# Altium schematic symbol library Transistor_FET.SchLib: 598 symbols (part 1 of 6)
Pins are listed as number, name and electrical type; pins without a type are passive.

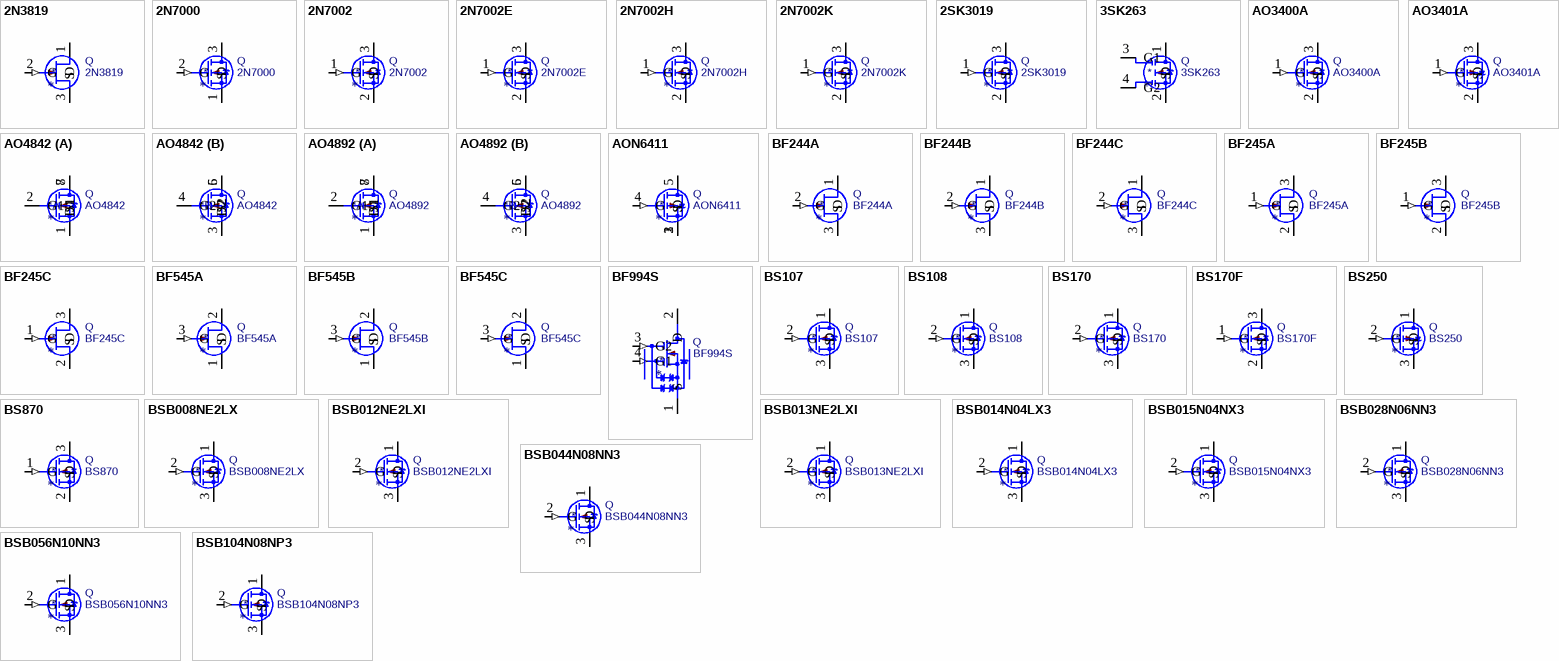
[diagram p0: symbols 2N3819 to BSB104N08NP3]

## 2N3819
designator *  value 2N3819  Reference: Q
20mA Id, 25V Vgs, N-Channel JFET Transistor, TO-92; ki_fp_filters: TO?92*; Footprint: Package_TO_SOT_THT:TO-92; Datasheet: https://my.centralsemi.com/datasheets/2N3819.PDF; Description_: 20mA Id, 25V Vgs, N-Channel JFET Transistor, TO-92; ki_keywords: N-Channel JFET Transistor
pins: 1 D, 2 G (in), 3 S

## 2N7000
designator *  value 2N7000  Reference: Q
0.2A Id, 200V Vds, N-Channel MOSFET, 2.6V Logic Level, TO-92; ki_keywords: N-Channel MOSFET Logic-Level; ki_fp_filters: TO?92*; Footprint: Package_TO_SOT_THT:TO-92_Inline; Datasheet: https://www.vishay.com/docs/70226/70226.pdf; Description_: 0.2A Id, 200V Vds, N-Channel MOSFET, 2.6V Logic Level, TO-92
pins: 1 S, 2 G (in), 3 D

## 2N7002
designator *  value 2N7002  Reference: Q
0.115A Id, 60V Vds, N-Channel MOSFET, SOT-23; ki_keywords: N-Channel Switching MOSFET; ki_fp_filters: SOT?23*; Footprint: Package_TO_SOT_SMD:SOT-23; Datasheet: https://www.onsemi.com/pub/Collateral/NDS7002A-D.PDF; Description_: 0.115A Id, 60V Vds, N-Channel MOSFET, SOT-23
pins: 1 G (in), 2 S, 3 D

## 2N7002E
designator *  value 2N7002E  Reference: Q
0.24A Id, 60V Vds, N-Channel MOSFET, SOT-23; ki_fp_filters: SOT?23*; Footprint: Package_TO_SOT_SMD:SOT-23; Datasheet: http://www.diodes.com/assets/Datasheets/ds30376.pdf; Description_: 0.24A Id, 60V Vds, N-Channel MOSFET, SOT-23; ki_keywords: N-Channel MOSFET
pins: 1 G (in), 2 S, 3 D

## 2N7002H
designator *  value 2N7002H  Reference: Q
0.21A Id, 60V Vds, N-Channel MOSFET, SOT-23; ki_fp_filters: SOT?23*; Footprint: Package_TO_SOT_SMD:SOT-23; Datasheet: http://www.diodes.com/assets/Datasheets/2N7002H.pdf; Description_: 0.21A Id, 60V Vds, N-Channel MOSFET, SOT-23; ki_keywords: N-Channel MOSFET
pins: 1 G (in), 2 S, 3 D

## 2N7002K
designator *  value 2N7002K  Reference: Q
0.38A Id, 60V Vds, N-Channel MOSFET, SOT-23; ki_fp_filters: SOT?23*; Footprint: Package_TO_SOT_SMD:SOT-23; Datasheet: https://www.diodes.com/assets/Datasheets/ds30896.pdf; Description_: 0.38A Id, 60V Vds, N-Channel MOSFET, SOT-23; ki_keywords: N-Channel MOSFET
pins: 1 G (in), 2 S, 3 D

## 2SK3019
designator *  value 2SK3019  Reference: Q
30V Vds, 0.1A Id, 2Ω Rds(on) @ 4.5V, N-Channel MOSFET, SOT-523; ki_keywords: MCC Micro-Commercial-Components; ki_fp_filters: SOT?523*; Footprint: Package_TO_SOT_SMD:SOT-523; Datasheet: https://www.mccsemi.com/pdf/Products/2SK3019(SOT-523).pdf; Description_: 30V Vds, 0.1A Id, 2Ω Rds(on) @ 4.5V, N-Channel MOSFET, SOT-523
pins: 1 G (in), 2 S, 3 D

## 3SK263
designator *  value 3SK263  Reference: Q
30mA Id, 15V Vds, N-Channel Dual Gate MOSFET, SOT-143/343; ki_keywords: N-Channel MOSFET Dual Gate; ki_fp_filters: SOT?143*; Footprint: Package_TO_SOT_SMD:SOT-143; Datasheet: http://www.onsemi.com/pub_link/Collateral/EN4423-D.PDF; Description_: 30mA Id, 15V Vds, N-Channel Dual Gate MOSFET, SOT-143/343
pins: 1 D, 2 S, 3 G1, 4 G2

## AO3400A
designator *  value AO3400A  Reference: Q
30V Vds, 5.7A Id, N-Channel MOSFET, SOT-23; ki_fp_filters: SOT?23*; Footprint: Package_TO_SOT_SMD:SOT-23; Datasheet: http://www.aosmd.com/pdfs/datasheet/AO3400A.pdf; Description_: 30V Vds, 5.7A Id, N-Channel MOSFET, SOT-23; ki_keywords: N-Channel MOSFET
pins: 1 G (in), 2 S, 3 D

## AO3401A
designator *  value AO3401A  Reference: Q
-4.0A Id, -30V Vds, P-Channel MOSFET, SOT-23; ki_fp_filters: SOT?23*; Footprint: Package_TO_SOT_SMD:SOT-23; Datasheet: http://www.aosmd.com/pdfs/datasheet/AO3401A.pdf; Description_: -4.0A Id, -30V Vds, P-Channel MOSFET, SOT-23; ki_keywords: P-Channel MOSFET
pins: 1 G (in), 2 S, 3 D

## AO4842
designator *  value AO4842  Reference: Q
7.7A Id, 30V Vds, Dual N-Channel MOSFET, 21mOhm Ron, SO-8; ki_fp_filters: SOIC*3.9x4.9mm*P1.27mm*; Footprint: Package_SO:SOIC-8_3.9x4.9mm_P1.27mm; Datasheet: https://aosmd.com/sites/default/files/res/data_sheets/AO4842.pdf; Description_: 7.7A Id, 30V Vds, Dual N-Channel MOSFET, 21mOhm Ron, SO-8; ki_keywords: Dual N-Channel MOSFET
part A pins: 1 S1, 2 G1, 7 D1, 8 D1
part B pins: 3 S2, 4 G2, 5 D2, 6 D2

## AO4892
designator *  value AO4892  Reference: Q
4A Id, 100V Vds, Dual N-Channel MOSFET, 68mOhm Ron, SO-8; ki_keywords: NMOS Alpha-Omega; ki_fp_filters: SOIC*3.9x4.9mm*P1.27mm*; Footprint: Package_SO:SOIC-8_3.9x4.9mm_P1.27mm; Datasheet: https://aosmd.com/sites/default/files/res/datasheets/AO4892.pdf; Description_: 4A Id, 100V Vds, Dual N-Channel MOSFET, 68mOhm Ron, SO-8
part A pins: 1 S1, 2 G1, 7 D1, 8 D1
part B pins: 3 S2, 4 G2, 5 D2, 6 D2

## AON6411
designator *  value AON6411  Reference: Q
-85A Id, -20V Vds, P-Channel MOSFET, DFN-8; ki_fp_filters: AO*DFN*8*1EP*5.55x5.2mm*P1.27mm*EP4.12x4.6mm*; Footprint: Package_DFN_QFN:AO_DFN-8-1EP_5.55x5.2mm_P1.27mm_EP4.12x4.6mm; Datasheet: http://www.aosmd.com/res/data_sheets/AON6411.pdf; Description_: -85A Id, -20V Vds, P-Channel MOSFET, DFN-8; ki_keywords: P-Channel MOSFET
pins: 1 S, 2 S, 3 S, 4 G (in), 5 D

## BF244A
designator *  value BF244A  Reference: Q
50mA Id, 30V Vgs, N-Channel FET Transistor, TO-92; ki_keywords: N-Channel FET Transistor Low Voltage; ki_fp_filters: TO?92*; Footprint: Package_TO_SOT_THT:TO-92_Inline; Datasheet: https://media.digikey.com/pdf/Data%20Sheets/Fairchild%20PDFs/BF244x.pdf; Description_: 50mA Id, 30V Vgs, N-Channel FET Transistor, TO-92
pins: 1 D, 2 G (in), 3 S

## BF244B
designator *  value BF244B  Reference: Q
50mA Id, 30V Vgs, N-Channel FET Transistor, TO-92; ki_keywords: N-Channel FET Transistor Low Voltage; ki_fp_filters: TO?92*; Footprint: Package_TO_SOT_THT:TO-92_Inline; Datasheet: https://media.digikey.com/pdf/Data%20Sheets/Fairchild%20PDFs/BF244x.pdf; Description_: 50mA Id, 30V Vgs, N-Channel FET Transistor, TO-92
pins: 1 D, 2 G (in), 3 S

## BF244C
designator *  value BF244C  Reference: Q
10mA Id, 30V Vgs, N-Channel FET Transistor, TO-92; ki_keywords: N-Channel FET Transistor Low Voltage; ki_fp_filters: TO?92*; Footprint: Package_TO_SOT_THT:TO-92_Inline; Datasheet: https://media.digikey.com/pdf/Data%20Sheets/Fairchild%20PDFs/BF244x.pdf; Description_: 10mA Id, 30V Vgs, N-Channel FET Transistor, TO-92
pins: 1 D, 2 G (in), 3 S

## BF245A
designator *  value BF245A  Reference: Q
50mA Id, 30V Vgs, N-Channel FET Transistor, TO-92; ki_keywords: N-Channel FET Transistor Low Voltage; ki_fp_filters: TO?92*; Footprint: Package_TO_SOT_THT:TO-92_Inline; Datasheet: https://www.onsemi.com/pub/Collateral/BF245A-D.PDF; Description_: 50mA Id, 30V Vgs, N-Channel FET Transistor, TO-92
pins: 1 G (in), 2 S, 3 D

## BF245B
designator *  value BF245B  Reference: Q
10mA Id, 30V Vgs, N-Channel FET Transistor, TO-92; ki_keywords: N-Channel FET Transistor Low Voltage; ki_fp_filters: TO?92*; Footprint: Package_TO_SOT_THT:TO-92_Inline; Datasheet: https://www.onsemi.com/pub/Collateral/BF245A-D.PDF; Description_: 10mA Id, 30V Vgs, N-Channel FET Transistor, TO-92
pins: 1 G (in), 2 S, 3 D

## BF245C
designator *  value BF245C  Reference: Q
10mA Id, 30V Vgs, N-Channel FET Transistor, TO-92; ki_keywords: N-Channel FET Transistor Low Voltage; ki_fp_filters: TO?92*; Footprint: Package_TO_SOT_THT:TO-92_Inline; Datasheet: https://www.onsemi.com/pub/Collateral/BF245A-D.PDF; Description_: 10mA Id, 30V Vgs, N-Channel FET Transistor, TO-92
pins: 1 G (in), 2 S, 3 D

## BF545A
designator *  value BF545A  Reference: Q
5mA Idss, 30V Vgs, N-Channel JFET, SOT-23; ki_keywords: N-Channel FET Transistor Low Voltage; ki_fp_filters: SOT?23*; Footprint: Package_TO_SOT_SMD:SOT-23; Datasheet: https://www.nxp.com/docs/en/data-sheet/BF545A_BF545B_BF545C.pdf; Description_: 5mA Idss, 30V Vgs, N-Channel JFET, SOT-23
pins: 1 S, 2 D, 3 G (in)

## BF545B
designator *  value BF545B  Reference: Q
15mA Idss, 30V Vgs, N-Channel JFET, SOT-23; ki_keywords: N-Channel FET Transistor Low Voltage; ki_fp_filters: SOT?23*; Footprint: Package_TO_SOT_SMD:SOT-23; Datasheet: https://www.nxp.com/docs/en/data-sheet/BF545A_BF545B_BF545C.pdf; Description_: 15mA Idss, 30V Vgs, N-Channel JFET, SOT-23
pins: 1 S, 2 D, 3 G (in)

## BF545C
designator *  value BF545C  Reference: Q
25mA Idss, 30V Vgs, N-Channel JFET, SOT-23; ki_keywords: N-Channel FET Transistor Low Voltage; ki_fp_filters: SOT?23*; Footprint: Package_TO_SOT_SMD:SOT-23; Datasheet: https://www.nxp.com/docs/en/data-sheet/BF545A_BF545B_BF545C.pdf; Description_: 25mA Idss, 30V Vgs, N-Channel JFET, SOT-23
pins: 1 S, 2 D, 3 G (in)

## BF994S
designator *  value BF994S  Reference: Q
VHF N-channel dual-gate MOS-FET, SOT-143; ki_keywords: N-Channel MOSFET; ki_fp_filters: SOT*143*; Footprint: Package_TO_SOT_SMD:SOT-143; Datasheet: https://www.nxp.com/docs/en/data-sheet/BF994S.pdf; Description_: VHF N-channel dual-gate MOS-FET, SOT-143
pins: 1 S, 2 D, 3 G2 (in), 4 G1 (in)

## BS107
designator *  value BS107  Reference: Q
0.25A Id, 200V Vds, N-Channel MOSFET, TO-92; ki_fp_filters: TO?92*; Footprint: Package_TO_SOT_THT:TO-92_Inline; Datasheet: http://www.onsemi.com/pub_link/Collateral/BS107-D.PDF; Description_: 0.25A Id, 200V Vds, N-Channel MOSFET, TO-92; ki_keywords: N-Channel MOSFET
pins: 1 D, 2 G (in), 3 S

## BS108
designator *  value BS108  Reference: Q
0.25A Id, 200V Vds, N-Channel MOSFET, TO-92; ki_fp_filters: TO?92*; Footprint: Package_TO_SOT_THT:TO-92_Inline; Datasheet: http://www.redrok.com/MOSFET_BS108_200V_250mA_8O_Vth1.5_TO-92.PDF; Description_: 0.25A Id, 200V Vds, N-Channel MOSFET, TO-92; ki_keywords: N-Channel MOSFET
pins: 1 D, 2 G (in), 3 S

## BS170
designator *  value BS170  Reference: Q
0.5A Id, 60V Vds, N-Channel MOSFET, TO-92; ki_fp_filters: TO?92*; Footprint: Package_TO_SOT_THT:TO-92_Inline; Datasheet: https://www.onsemi.com/pub/Collateral/BS170-D.PDF; Description_: 0.5A Id, 60V Vds, N-Channel MOSFET, TO-92; ki_keywords: N-Channel MOSFET
pins: 1 D, 2 G (in), 3 S

## BS170F
designator *  value BS170F  Reference: Q
0.15A Id, 60V Vds, N-Channel MOSFET, SOT-23; ki_fp_filters: SOT?23*; Footprint: Package_TO_SOT_SMD:SOT-23; Datasheet: http://www.diodes.com/assets/Datasheets/BS170F.pdf; Description_: 0.15A Id, 60V Vds, N-Channel MOSFET, SOT-23; ki_keywords: N-Channel MOSFET
pins: 1 G (in), 2 S, 3 D

## BS250
designator *  value BS250  Reference: Q
-0.18A Id, -45V Vds, P-Channel MOSFET, TO-92; ki_fp_filters: TO?92*; Footprint: Package_TO_SOT_THT:TO-92_Inline; Datasheet: http://www.vishay.com/docs/70209/70209.pdf; Description_: -0.18A Id, -45V Vds, P-Channel MOSFET, TO-92; ki_keywords: P-Channel MOSFET
pins: 1 D, 2 G (in), 3 S

## BS870
designator *  value BS870  Reference: Q
0.25A Id, 60V Vds, N-Channel MOSFET, SOT-23; ki_fp_filters: SOT?23*; Footprint: Package_TO_SOT_SMD:SOT-23; Datasheet: http://www.diodes.com/assets/Datasheets/ds11302.pdf; Description_: 0.25A Id, 60V Vds, N-Channel MOSFET, SOT-23; ki_keywords: N-Channel MOSFET
pins: 1 G (in), 2 S, 3 D

## BSB008NE2LX
designator *  value BSB008NE2LX  Reference: Q
180A Id, 25V Vds, 0.8mOhm Rds, N-Channel MOSFET, DirectFET MX; ki_fp_filters: DirectFET*MX*; Footprint: Package_DirectFET:DirectFET_MX; Datasheet: https://www.infineon.com/dgdl/Infineon-BSB008NE2LX-DS-v02_00-EN.pdf?fileId=db3a30432e564707012e5745ca7d000e; Description_: 180A Id, 25V Vds, 0.8mOhm Rds, N-Channel MOSFET, DirectFET MX; ki_keywords: N-Channel MOSFET
pins: 1 D, 2 G (in), 3 S

## BSB012NE2LXI
designator *  value BSB012NE2LXI  Reference: Q
170A Id, 25V Vds, 1.2mOhm Rds, N-Channel MOSFET, DirectFET MX; ki_fp_filters: DirectFET*MX*; Footprint: Package_DirectFET:DirectFET_MX; Datasheet: https://www.infineon.com/dgdl/Infineon-BSB012NE2LXI-DS-v02_01-EN.pdf?fileId=db3a30433f764301013f805e3eb247c1; Description_: 170A Id, 25V Vds, 1.2mOhm Rds, N-Channel MOSFET, DirectFET MX; ki_keywords: N-Channel MOSFET
pins: 1 D, 2 G (in), 3 S

## BSB013NE2LXI
designator *  value BSB013NE2LXI  Reference: Q
163A Id, 25V Vds, 1.3mOhm Rds, N-Channel MOSFET, DirectFET MX; ki_fp_filters: DirectFET*MX*; Footprint: Package_DirectFET:DirectFET_MX; Datasheet: https://www.infineon.com/dgdl/Infineon-BSB013NE2LXI-DS-v02_04-en.pdf?fileId=db3a30432e398416012e47a158802577; Description_: 163A Id, 25V Vds, 1.3mOhm Rds, N-Channel MOSFET, DirectFET MX; ki_keywords: N-Channel MOSFET
pins: 1 D, 2 G (in), 3 S

## BSB014N04LX3
designator *  value BSB014N04LX3  Reference: Q
180A Id, 40V Vds, 1.4mOhm Rds, N-Channel MOSFET, DirectFET MX; ki_fp_filters: DirectFET*MX*; Footprint: Package_DirectFET:DirectFET_MX; Datasheet: https://www.infineon.com/dgdl/Infineon-BSB014N04LX3G-DS-v02_03-en.pdf?fileId=db3a304320d39d590121a02c6c737a9b; Description_: 180A Id, 40V Vds, 1.4mOhm Rds, N-Channel MOSFET, DirectFET MX; ki_keywords: N-Channel MOSFET
pins: 1 D, 2 G (in), 3 S

## BSB015N04NX3
designator *  value BSB015N04NX3  Reference: Q
180A Id, 40V Vds, 1.5mOhm Rds, N-Channel MOSFET, DirectFET MX; ki_fp_filters: DirectFET*MX*; Footprint: Package_DirectFET:DirectFET_MX; Datasheet: https://www.infineon.com/dgdl/Infineon-BSB015N04NX3G-DS-v02_04-en.pdf?fileId=db3a304320d39d590121a03bbfcd7aac; Description_: 180A Id, 40V Vds, 1.5mOhm Rds, N-Channel MOSFET, DirectFET MX; ki_keywords: N-Channel MOSFET
pins: 1 D, 2 G (in), 3 S

## BSB028N06NN3
designator *  value BSB028N06NN3  Reference: Q
90A Id, 60V Vds, 2.8mOhm Rds, N-Channel MOSFET, DirectFET MN; ki_fp_filters: DirectFET*MN*; Footprint: Package_DirectFET:DirectFET_MN; Datasheet: https://www.infineon.com/dgdl/Infineon-BSB028N06NN3-DS-v02_00-en.pdf?fileId=db3a30432e25b009012e29fda4e23838; Description_: 90A Id, 60V Vds, 2.8mOhm Rds, N-Channel MOSFET, DirectFET MN; ki_keywords: N-Channel MOSFET
pins: 1 D, 2 G (in), 3 S

## BSB044N08NN3
designator *  value BSB044N08NN3  Reference: Q
90A Id, 80V Vds, 4.4mOhm Rds, N-Channel MOSFET, DirectFET MN; ki_fp_filters: DirectFET*MN*; Footprint: Package_DirectFET:DirectFET_MN; Datasheet: https://www.infineon.com/dgdl/Infineon-BSB044N08NN3_G-DS-v02_00-en.pdf?fileId=db3a30435819ae2e012e385cde7b70d4; Description_: 90A Id, 80V Vds, 4.4mOhm Rds, N-Channel MOSFET, DirectFET MN; ki_keywords: N-Channel MOSFET
pins: 1 D, 2 G (in), 3 S

## BSB056N10NN3
designator *  value BSB056N10NN3  Reference: Q
83A Id, 100V Vds, 5.1mOhm Rds, N-Channel MOSFET, DirectFET MN; ki_fp_filters: DirectFET*MN*; Footprint: Package_DirectFET:DirectFET_MN; Datasheet: https://www.infineon.com/dgdl/Infineon-BSB056N10NN3_G-DS-v02_05-en.pdf?fileId=db3a30442e152e91012e390b9a631459; Description_: 83A Id, 100V Vds, 5.1mOhm Rds, N-Channel MOSFET, DirectFET MN; ki_keywords: N-Channel MOSFET
pins: 1 D, 2 G (in), 3 S

## BSB104N08NP3
designator *  value BSB104N08NP3  Reference: Q
50A Id, 80V Vds, 10.4mOhm Rds, N-Channel MOSFET, DirectFET MP; ki_fp_filters: DirectFET*MP*; Footprint: Package_DirectFET:DirectFET_MP; Datasheet: https://www.infineon.com/dgdl/Infineon-BSB104N08NP3_G-DS-v02_01-en.pdf?fileId=db3a304341e0aed00141efc548ca1b2b; Description_: 50A Id, 80V Vds, 10.4mOhm Rds, N-Channel MOSFET, DirectFET MP; ki_keywords: N-Channel MOSFET
pins: 1 D, 2 G (in), 3 S

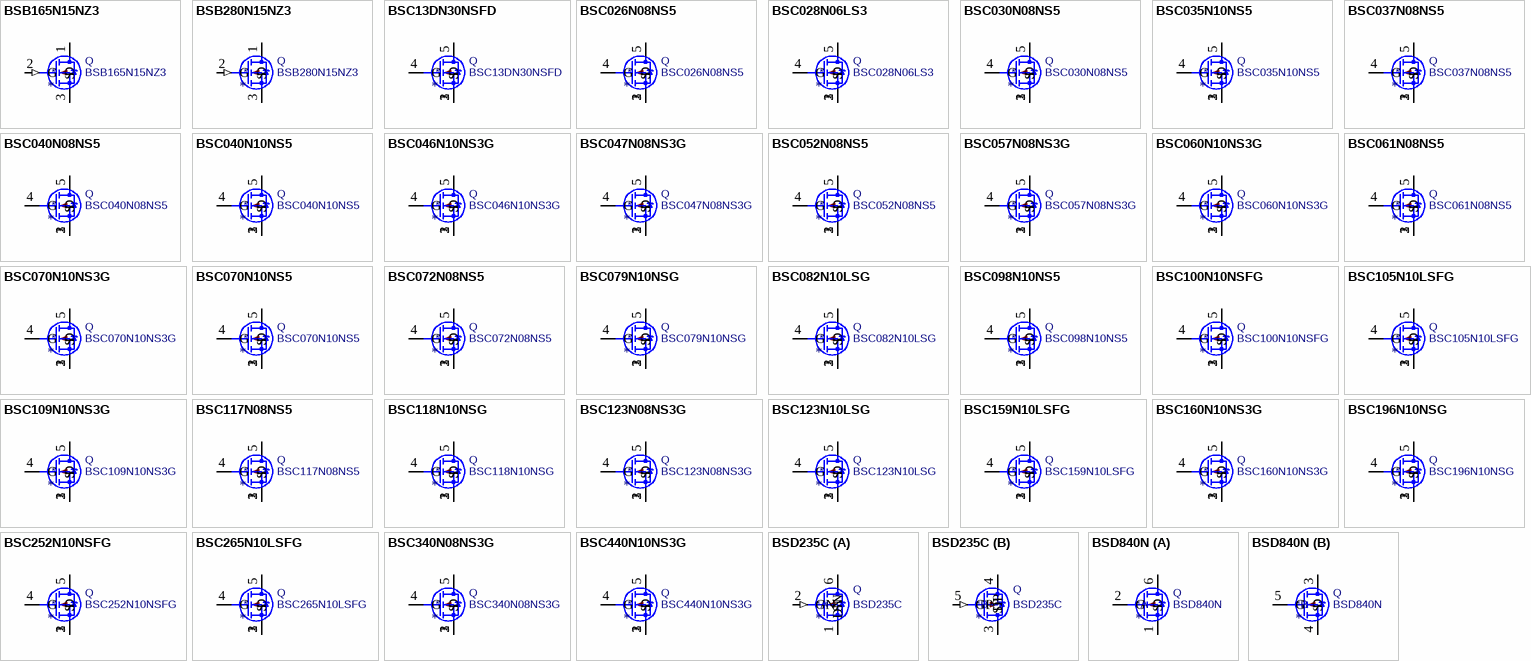
[diagram p1: symbols BSB165N15NZ3 to BSD840N]

## BSB165N15NZ3
designator *  value BSB165N15NZ3  Reference: Q
45A Id, 150V Vds, 16.5mOhm Rds, N-Channel MOSFET, DirectFET MZ; ki_fp_filters: DirectFET*MZ*; Footprint: Package_DirectFET:DirectFET_MZ; Datasheet: https://www.infineon.com/dgdl/Infineon-BSB165N15NZ3-DS-v02_02-en.pdf?fileId=db3a30432e779412012e7b04a1353843; Description_: 45A Id, 150V Vds, 16.5mOhm Rds, N-Channel MOSFET, DirectFET MZ; ki_keywords: N-Channel MOSFET
pins: 1 D, 2 G (in), 3 S

## BSB280N15NZ3
designator *  value BSB280N15NZ3  Reference: Q
30A Id, 150V Vds, 28mOhm Rds, N-Channel MOSFET, DirectFET MZ; ki_fp_filters: DirectFET*MZ*; Footprint: Package_DirectFET:DirectFET_MZ; Datasheet: https://www.infineon.com/dgdl/Infineon-BSB280N15NZ3-DS-v02_05-en.pdf?fileId=db3a30432e779412012e7b0b544c3852; Description_: 30A Id, 150V Vds, 28mOhm Rds, N-Channel MOSFET, DirectFET MZ; ki_keywords: N-Channel MOSFET
pins: 1 D, 2 G (in), 3 S

## BSC13DN30NSFD
designator *  value BSC13DN30NSFD  Reference: Q
16A Id, 300V Vds, OptiMOS N-Channel Power MOSFET, 130mOhm Ron, Qg (typ) 30.0nC, PG-TDSON-8; ki_keywords: NexFET Power MOSFET N-MOS; ki_fp_filters: TDSON*; Footprint: Package_TO_SOT_SMD:TDSON-8-1; Datasheet: https://www.infineon.com/dgdl/Infineon-BSC13DN30NSFD-DS-v02_01-EN.pdf?fileId=5546d46259b0420a0159d5c940fc0d9a; Description_: 16A Id, 300V Vds, OptiMOS N-Channel Power MOSFET, 130mOhm Ron, Qg (typ) 30.0nC, PG-TDSON-8
pins: 1 S, 2 S, 3 S, 4 G, 5 D

## BSC026N08NS5
designator *  value BSC026N08NS5  Reference: Q
100A Id, 80V Vds, OptiMOS N-Channel Power MOSFET, 2.6mOhm Ron, Qg (typ) 74.0nC, PG-TDSON-8; ki_keywords: OptiMOS Power MOSFET N-MOS; ki_fp_filters: TDSON*; Footprint: Package_TO_SOT_SMD:TDSON-8-1; Datasheet: http://www.infineon.com/dgdl/Infineon-BSC026N08NS5-DS-v02_01-EN.pdf?fileId=5546d4624ad04ef9014ae2eace7629e0; Description_: 100A Id, 80V Vds, OptiMOS N-Channel Power MOSFET, 2.6mOhm Ron, Qg (typ) 74.0nC, PG-TDSON-8
pins: 1 S, 2 S, 3 S, 4 G, 5 D

## BSC028N06LS3
designator *  value BSC028N06LS3  Reference: Q
100A Id, 60V Vds, OptiMOS N-Channel Power MOSFET, 2.8mOhm Ron, Qg (typ) 31.0nC, PG-TDSON-8; ki_keywords: OptiMOS Power MOSFET N-MOS; ki_fp_filters: TDSON*; Footprint: Package_TO_SOT_SMD:TDSON-8-1; Datasheet: http://www.infineon.com/dgdl/Infineon-BSC028N06LS3-DS-v02_02-en.pdf?fileId=db3a30431ddc9372011ebafa4c607f8c; Description_: 100A Id, 60V Vds, OptiMOS N-Channel Power MOSFET, 2.8mOhm Ron, Qg (typ) 31.0nC, PG-TDSON-8
pins: 1 S, 2 S, 3 S, 4 G, 5 D

## BSC030N08NS5
designator *  value BSC030N08NS5  Reference: Q
100A Id, 80V Vds, OptiMOS N-Channel Power MOSFET, 3.0mOhm Ron, Qg (typ) 61.0nC, PG-TDSON-8; ki_keywords: OptiMOS Power MOSFET N-MOS; ki_fp_filters: TDSON*; Footprint: Package_TO_SOT_SMD:TDSON-8-1; Datasheet: http://www.infineon.com/dgdl/Infineon-BSC030N08NS5-DS-v02_02-EN.pdf?fileId=5546d4624ad04ef9014aed52f4210acf; Description_: 100A Id, 80V Vds, OptiMOS N-Channel Power MOSFET, 3.0mOhm Ron, Qg (typ) 61.0nC, PG-TDSON-8
pins: 1 S, 2 S, 3 S, 4 G, 5 D

## BSC035N10NS5
designator *  value BSC035N10NS5  Reference: Q
100A Id, 100V Vds, OptiMOS N-Channel Power MOSFET, 3.5mOhm Ron, Qg (typ) 70.0nC, PG-TDSON-8; ki_keywords: OptiMOS Power MOSFET N-MOS; ki_fp_filters: TDSON*; Footprint: Package_TO_SOT_SMD:TDSON-8-1; Datasheet: http://www.infineon.com/dgdl/Infineon-BSC035N10NS5-DS-v02_00-EN.pdf?fileId=5546d4624ad04ef9014ae8b5f3bc1b6f; Description_: 100A Id, 100V Vds, OptiMOS N-Channel Power MOSFET, 3.5mOhm Ron, Qg (typ) 70.0nC, PG-TDSON-8
pins: 1 S, 2 S, 3 S, 4 G, 5 D

## BSC037N08NS5
designator *  value BSC037N08NS5  Reference: Q
100A Id, 80V Vds, OptiMOS N-Channel Power MOSFET, 3.7mOhm Ron, Qg (typ) 46.0nC, PG-TDSON-8; ki_keywords: OptiMOS Power MOSFET N-MOS; ki_fp_filters: TDSON*; Footprint: Package_TO_SOT_SMD:TDSON-8-1; Datasheet: http://www.infineon.com/dgdl/Infineon-BSC037N08NS5-DS-v02_00-EN.pdf?fileId=5546d4624ad04ef9014ae9ad3b8e1c33; Description_: 100A Id, 80V Vds, OptiMOS N-Channel Power MOSFET, 3.7mOhm Ron, Qg (typ) 46.0nC, PG-TDSON-8
pins: 1 S, 2 S, 3 S, 4 G, 5 D

## BSC040N08NS5
designator *  value BSC040N08NS5  Reference: Q
100A Id, 80V Vds, OptiMOS N-Channel Power MOSFET, 4.0mOhm Ron, Qg (typ) 43.0nC, PG-TDSON-8; ki_keywords: OptiMOS Power MOSFET N-MOS; ki_fp_filters: TDSON*; Footprint: Package_TO_SOT_SMD:TDSON-8-1; Datasheet: http://www.infineon.com/dgdl/Infineon-BSC040N08NS5-DS-v02_00-EN.pdf?fileId=5546d4624ad04ef9014ae3065a7e2a05; Description_: 100A Id, 80V Vds, OptiMOS N-Channel Power MOSFET, 4.0mOhm Ron, Qg (typ) 43.0nC, PG-TDSON-8
pins: 1 S, 2 S, 3 S, 4 G, 5 D

## BSC040N10NS5
designator *  value BSC040N10NS5  Reference: Q
100A Id, 100V Vds, OptiMOS N-Channel Power MOSFET, 4.0mOhm Ron, Qg (typ) 58.0nC, PG-TDSON-8; ki_keywords: OptiMOS Power MOSFET N-MOS; ki_fp_filters: TDSON*; Footprint: Package_TO_SOT_SMD:TDSON-8-1; Datasheet: http://www.infineon.com/dgdl/Infineon-BSC040N10NS5-DS-v02_01-EN.pdf?fileId=5546d4624a0bf290014a0fbcee2e6b38; Description_: 100A Id, 100V Vds, OptiMOS N-Channel Power MOSFET, 4.0mOhm Ron, Qg (typ) 58.0nC, PG-TDSON-8
pins: 1 S, 2 S, 3 S, 4 G, 5 D

## BSC046N10NS3G
designator *  value BSC046N10NS3G  Reference: Q
100A Id, 100V Vds, OptiMOS N-Channel Power MOSFET, 4.6mOhm Ron, Qg (typ) 63.0nC, PG-TDSON-8; ki_keywords: OptiMOS Power MOSFET N-MOS; ki_fp_filters: TDSON*; Footprint: Package_TO_SOT_SMD:TDSON-8-1; Datasheet: http://www.infineon.com/dgdl/Infineon-BSC046N10NS3-DS-v02_00-en.pdf?fileId=db3a304332fc1ee7013316f966a4713c; Description_: 100A Id, 100V Vds, OptiMOS N-Channel Power MOSFET, 4.6mOhm Ron, Qg (typ) 63.0nC, PG-TDSON-8
pins: 1 S, 2 S, 3 S, 4 G, 5 D

## BSC047N08NS3G
designator *  value BSC047N08NS3G  Reference: Q
100A Id, 80V Vds, OptiMOS N-Channel Power MOSFET, 4.7mOhm Ron, Qg (typ) 52.0nC, PG-TDSON-8; ki_keywords: OptiMOS Power MOSFET N-MOS; ki_fp_filters: TDSON*; Footprint: Package_TO_SOT_SMD:TDSON-8-1; Datasheet: http://www.infineon.com/dgdl/Infineon-BSC047N08NS3G-DS-v02_07-en.pdf?fileId=db3a30431add1d95011ae7e8dacf5611; Description_: 100A Id, 80V Vds, OptiMOS N-Channel Power MOSFET, 4.7mOhm Ron, Qg (typ) 52.0nC, PG-TDSON-8
pins: 1 S, 2 S, 3 S, 4 G, 5 D

## BSC052N08NS5
designator *  value BSC052N08NS5  Reference: Q
95A Id, 80V Vds, OptiMOS N-Channel Power MOSFET, 5.2mOhm Ron, Qg (typ) 32.0nC, PG-TDSON-8; ki_keywords: OptiMOS Power MOSFET N-MOS; ki_fp_filters: TDSON*; Footprint: Package_TO_SOT_SMD:TDSON-8-1; Datasheet: http://www.infineon.com/dgdl/Infineon-BSC052N08NS5-DS-v02_00-EN.pdf?fileId=5546d4624ad04ef9014ae38fc94f2b40; Description_: 95A Id, 80V Vds, OptiMOS N-Channel Power MOSFET, 5.2mOhm Ron, Qg (typ) 32.0nC, PG-TDSON-8
pins: 1 S, 2 S, 3 S, 4 G, 5 D

## BSC057N08NS3G
designator *  value BSC057N08NS3G  Reference: Q
100A Id, 80V Vds, OptiMOS N-Channel Power MOSFET, 5.7mOhm Ron, Qg (typ) 42.0nC, PG-TDSON-8; ki_keywords: OptiMOS Power MOSFET N-MOS; ki_fp_filters: TDSON*; Footprint: Package_TO_SOT_SMD:TDSON-8-1; Datasheet: http://www.infineon.com/dgdl/Infineon-BSC057N08NS3G-DS-v02_04-en.pdf?fileId=db3a30431add1d95011ae803c9345616; Description_: 100A Id, 80V Vds, OptiMOS N-Channel Power MOSFET, 5.7mOhm Ron, Qg (typ) 42.0nC, PG-TDSON-8
pins: 1 S, 2 S, 3 S, 4 G, 5 D

## BSC060N10NS3G
designator *  value BSC060N10NS3G  Reference: Q
90A Id, 100V Vds, OptiMOS N-Channel Power MOSFET, 6.0mOhm Ron, Qg (typ) 51.0nC, PG-TDSON-8; ki_keywords: OptiMOS Power MOSFET N-MOS; ki_fp_filters: TDSON*; Footprint: Package_TO_SOT_SMD:TDSON-8-1; Datasheet: http://www.infineon.com/dgdl/Infineon-BSC060N10NS3-DS-v02_04-en.pdf?fileId=db3a30431ce5fb52011d1aab7f90133a; Description_: 90A Id, 100V Vds, OptiMOS N-Channel Power MOSFET, 6.0mOhm Ron, Qg (typ) 51.0nC, PG-TDSON-8
pins: 1 S, 2 S, 3 S, 4 G, 5 D

## BSC061N08NS5
designator *  value BSC061N08NS5  Reference: Q
82A Id, 80V Vds, OptiMOS N-Channel Power MOSFET, 6.1mOhm Ron, Qg (typ) 27.0nC, PG-TDSON-8; ki_keywords: OptiMOS Power MOSFET N-MOS; ki_fp_filters: TDSON*; Footprint: Package_TO_SOT_SMD:TDSON-8-1; Datasheet: http://www.infineon.com/dgdl/Infineon-BSC061N08NS5-DS-v02_00-EN.pdf?fileId=5546d4624ad04ef9014ae3ab1bb62b69; Description_: 82A Id, 80V Vds, OptiMOS N-Channel Power MOSFET, 6.1mOhm Ron, Qg (typ) 27.0nC, PG-TDSON-8
pins: 1 S, 2 S, 3 S, 4 G, 5 D

## BSC070N10NS3G
designator *  value BSC070N10NS3G  Reference: Q
90A Id, 100V Vds, OptiMOS N-Channel Power MOSFET, 7.0mOhm Ron, Qg (typ) 42.0nC, PG-TDSON-8; ki_keywords: OptiMOS Power MOSFET N-MOS; ki_fp_filters: TDSON*; Footprint: Package_TO_SOT_SMD:TDSON-8-1; Datasheet: http://www.infineon.com/dgdl/Infineon-BSC070N10NS3-DS-v02_01-en.pdf?fileId=db3a304327b89750012824712c6c6f2f; Description_: 90A Id, 100V Vds, OptiMOS N-Channel Power MOSFET, 7.0mOhm Ron, Qg (typ) 42.0nC, PG-TDSON-8
pins: 1 S, 2 S, 3 S, 4 G, 5 D

## BSC070N10NS5
designator *  value BSC070N10NS5  Reference: Q
80A Id, 100V Vds, OptiMOS N-Channel Power MOSFET, 7.0mOhm Ron, Qg (typ) 30.0nC, PG-TDSON-8; ki_keywords: OptiMOS Power MOSFET N-MOS; ki_fp_filters: TDSON*; Footprint: Package_TO_SOT_SMD:TDSON-8-1; Datasheet: http://www.infineon.com/dgdl/Infineon-BSC070N10NS5-DS-v02_01-EN.pdf?fileId=5546d4624a0bf290014a0fc62d9d6b3c; Description_: 80A Id, 100V Vds, OptiMOS N-Channel Power MOSFET, 7.0mOhm Ron, Qg (typ) 30.0nC, PG-TDSON-8
pins: 1 S, 2 S, 3 S, 4 G, 5 D

## BSC072N08NS5
designator *  value BSC072N08NS5  Reference: Q
74A Id, 80V Vds, OptiMOS N-Channel Power MOSFET, 7.2mOhm Ron, Qg (typ) 24.0nC, PG-TDSON-8; ki_keywords: OptiMOS Power MOSFET N-MOS; ki_fp_filters: TDSON*; Footprint: Package_TO_SOT_SMD:TDSON-8-1; Datasheet: http://www.infineon.com/dgdl/Infineon-BSC072N08NS5-DS-v02_00-EN.pdf?fileId=5546d4624ad04ef9014ae3d8e8192c7c; Description_: 74A Id, 80V Vds, OptiMOS N-Channel Power MOSFET, 7.2mOhm Ron, Qg (typ) 24.0nC, PG-TDSON-8
pins: 1 S, 2 S, 3 S, 4 G, 5 D

## BSC079N10NSG
designator *  value BSC079N10NSG  Reference: Q
100A Id, 100V Vds, OptiMOS N-Channel Power MOSFET, 7.9mOhm Ron, Qg (typ) 66.0nC, PG-TDSON-8; ki_keywords: OptiMOS Power MOSFET N-MOS; ki_fp_filters: TDSON*; Footprint: Package_TO_SOT_SMD:TDSON-8-1; Datasheet: http://www.infineon.com/dgdl/Infineon-BSC079N10NS-DS-v01_06-en.pdf?fileId=db3a3043163797a601167b174f951147; Description_: 100A Id, 100V Vds, OptiMOS N-Channel Power MOSFET, 7.9mOhm Ron, Qg (typ) 66.0nC, PG-TDSON-8
pins: 1 S, 2 S, 3 S, 4 G, 5 D

## BSC082N10LSG
designator *  value BSC082N10LSG  Reference: Q
100A Id, 100V Vds, OptiMOS N-Channel Power MOSFET, 8.2mOhm Ron, Qg (typ) 78.0nC, PG-TDSON-8; ki_keywords: OptiMOS Power MOSFET N-MOS; ki_fp_filters: TDSON*; Footprint: Package_TO_SOT_SMD:TDSON-8-1; Datasheet: http://www.infineon.com/dgdl/Infineon-BSC082N10LS-DS-v01_07-en.pdf?fileId=db3a3043163797a6011647faad240719; Description_: 100A Id, 100V Vds, OptiMOS N-Channel Power MOSFET, 8.2mOhm Ron, Qg (typ) 78.0nC, PG-TDSON-8
pins: 1 S, 2 S, 3 S, 4 G, 5 D

## BSC098N10NS5
designator *  value BSC098N10NS5  Reference: Q
60A Id, 100V Vds, OptiMOS N-Channel Power MOSFET, 9.8mOhm Ron, Qg (typ) 22.0nC, PG-TDSON-8; ki_keywords: OptiMOS Power MOSFET N-MOS; ki_fp_filters: TDSON*; Footprint: Package_TO_SOT_SMD:TDSON-8-1; Datasheet: http://www.infineon.com/dgdl/Infineon-BSC098N10NS5-DS-v02_00-EN.pdf?fileId=5546d4624ad04ef9014ae95ab4221bfd; Description_: 60A Id, 100V Vds, OptiMOS N-Channel Power MOSFET, 9.8mOhm Ron, Qg (typ) 22.0nC, PG-TDSON-8
pins: 1 S, 2 S, 3 S, 4 G, 5 D

## BSC100N10NSFG
designator *  value BSC100N10NSFG  Reference: Q
90A Id, 100V Vds, OptiMOS N-Channel Power MOSFET, 10.0mOhm Ron, Qg (typ) 33.0nC, PG-TDSON-8; ki_keywords: OptiMOS Power MOSFET N-MOS; ki_fp_filters: TDSON*; Footprint: Package_TO_SOT_SMD:TDSON-8-1; Datasheet: http://www.infineon.com/dgdl/Infineon-BSC100N10NSF-DS-v02_08-en.pdf?fileId=db3a30431b3e89eb011b49a75b607b57; Description_: 90A Id, 100V Vds, OptiMOS N-Channel Power MOSFET, 10.0mOhm Ron, Qg (typ) 33.0nC, PG-TDSON-8
pins: 1 S, 2 S, 3 S, 4 G, 5 D

## BSC105N10LSFG
designator *  value BSC105N10LSFG  Reference: Q
90A Id, 100V Vds, OptiMOS N-Channel Power MOSFET, 10.5mOhm Ron, Qg (typ) 40.0nC, PG-TDSON-8; ki_keywords: OptiMOS Power MOSFET N-MOS; ki_fp_filters: TDSON*; Footprint: Package_TO_SOT_SMD:TDSON-8-1; Datasheet: http://www.infineon.com/dgdl/Infineon-BSC105N10LSF-DS-v02_09-en.pdf?fileId=db3a30431b3e89eb011b499b2aa07b26; Description_: 90A Id, 100V Vds, OptiMOS N-Channel Power MOSFET, 10.5mOhm Ron, Qg (typ) 40.0nC, PG-TDSON-8
pins: 1 S, 2 S, 3 S, 4 G, 5 D

## BSC109N10NS3G
designator *  value BSC109N10NS3G  Reference: Q
63A Id, 100V Vds, OptiMOS N-Channel Power MOSFET, 10.9mOhm Ron, Qg (typ) 26.0nC, PG-TDSON-8; ki_keywords: OptiMOS Power MOSFET N-MOS; ki_fp_filters: TDSON*; Footprint: Package_TO_SOT_SMD:TDSON-8-1; Datasheet: http://www.infineon.com/dgdl/Infineon-BSC109N10NS3-DS-v02_00-en.pdf?fileId=db3a304327b897500128247bdae36f3f; Description_: 63A Id, 100V Vds, OptiMOS N-Channel Power MOSFET, 10.9mOhm Ron, Qg (typ) 26.0nC, PG-TDSON-8
pins: 1 S, 2 S, 3 S, 4 G, 5 D

## BSC117N08NS5
designator *  value BSC117N08NS5  Reference: Q
49A Id, 80V Vds, OptiMOS N-Channel Power MOSFET, 11.7mOhm Ron, Qg (typ) 15.0nC, PG-TDSON-8; ki_keywords: OptiMOS Power MOSFET N-MOS; ki_fp_filters: TDSON*; Footprint: Package_TO_SOT_SMD:TDSON-8-1; Datasheet: http://www.infineon.com/dgdl/Infineon-BSC117N08NS5-DS-v02_00-EN.pdf?fileId=5546d4624ad04ef9014ae97632721c1b; Description_: 49A Id, 80V Vds, OptiMOS N-Channel Power MOSFET, 11.7mOhm Ron, Qg (typ) 15.0nC, PG-TDSON-8
pins: 1 S, 2 S, 3 S, 4 G, 5 D

## BSC118N10NSG
designator *  value BSC118N10NSG  Reference: Q
71A Id, 100V Vds, OptiMOS N-Channel Power MOSFET, 11.8mOhm Ron, Qg (typ) 42.0nC, PG-TDSON-8; ki_keywords: OptiMOS Power MOSFET N-MOS; ki_fp_filters: TDSON*; Footprint: Package_TO_SOT_SMD:TDSON-8-1; Datasheet: http://www.infineon.com/dgdl/Infineon-BSC118N10NS-DS-v01_08-en.pdf?fileId=db3a3043163797a6011647fdc2d4071c; Description_: 71A Id, 100V Vds, OptiMOS N-Channel Power MOSFET, 11.8mOhm Ron, Qg (typ) 42.0nC, PG-TDSON-8
pins: 1 S, 2 S, 3 S, 4 G, 5 D

## BSC123N08NS3G
designator *  value BSC123N08NS3G  Reference: Q
55A Id, 80V Vds, OptiMOS N-Channel Power MOSFET, 12.3mOhm Ron, Qg (typ) 19.0nC, PG-TDSON-8; ki_keywords: OptiMOS Power MOSFET N-MOS; ki_fp_filters: TDSON*; Footprint: Package_TO_SOT_SMD:TDSON-8-1; Datasheet: http://www.infineon.com/dgdl/Infineon-BSC123N08NS3G-DS-v02_05-en.pdf?fileId=db3a30431add1d95011ae80eb8555625; Description_: 55A Id, 80V Vds, OptiMOS N-Channel Power MOSFET, 12.3mOhm Ron, Qg (typ) 19.0nC, PG-TDSON-8
pins: 1 S, 2 S, 3 S, 4 G, 5 D

## BSC123N10LSG
designator *  value BSC123N10LSG  Reference: Q
71A Id, 100V Vds, OptiMOS N-Channel Power MOSFET, 12.3mOhm Ron, Qg (typ) 51.0nC, PG-TDSON-8; ki_keywords: OptiMOS Power MOSFET N-MOS; ki_fp_filters: TDSON*; Footprint: Package_TO_SOT_SMD:TDSON-8-1; Datasheet: http://www.infineon.com/dgdl/Infineon-BSC123N10LS-DS-v02_08-en.pdf?fileId=db3a30431b3e89eb011b4626974b7df5; Description_: 71A Id, 100V Vds, OptiMOS N-Channel Power MOSFET, 12.3mOhm Ron, Qg (typ) 51.0nC, PG-TDSON-8
pins: 1 S, 2 S, 3 S, 4 G, 5 D

## BSC159N10LSFG
designator *  value BSC159N10LSFG  Reference: Q
63A Id, 100V Vds, OptiMOS N-Channel Power MOSFET, 15.9mOhm Ron, Qg (typ) 26.0nC, PG-TDSON-8; ki_keywords: OptiMOS Power MOSFET N-MOS; ki_fp_filters: TDSON*; Footprint: Package_TO_SOT_SMD:TDSON-8-1; Datasheet: http://www.infineon.com/dgdl/Infineon-BSC159N10LSF-DS-v02_09-en.pdf?fileId=db3a30431b3e89eb011b499f85d47b36; Description_: 63A Id, 100V Vds, OptiMOS N-Channel Power MOSFET, 15.9mOhm Ron, Qg (typ) 26.0nC, PG-TDSON-8
pins: 1 S, 2 S, 3 S, 4 G, 5 D

## BSC160N10NS3G
designator *  value BSC160N10NS3G  Reference: Q
42A Id, 100V Vds, OptiMOS N-Channel Power MOSFET, 16.0mOhm Ron, Qg (typ) 19.0nC, PG-TDSON-8; ki_keywords: OptiMOS Power MOSFET N-MOS; ki_fp_filters: TDSON*; Footprint: Package_TO_SOT_SMD:TDSON-8-1; Datasheet: http://www.infineon.com/dgdl/Infineon-BSC160N10NS3-DS-v02_04-en.pdf?fileId=db3a30432239cccd01226040189a7f47; Description_: 42A Id, 100V Vds, OptiMOS N-Channel Power MOSFET, 16.0mOhm Ron, Qg (typ) 19.0nC, PG-TDSON-8
pins: 1 S, 2 S, 3 S, 4 G, 5 D

## BSC196N10NSG
designator *  value BSC196N10NSG  Reference: Q
45A Id, 100V Vds, OptiMOS N-Channel Power MOSFET, 19.6mOhm Ron, Qg (typ) 25.0nC, PG-TDSON-8; ki_keywords: OptiMOS Power MOSFET N-MOS; ki_fp_filters: TDSON*; Footprint: Package_TO_SOT_SMD:TDSON-8-1; Datasheet: http://www.infineon.com/dgdl/Infineon-BSC196N10NS-DS-v01_07-en.pdf?fileId=db3a3043163797a601164800549d071f; Description_: 45A Id, 100V Vds, OptiMOS N-Channel Power MOSFET, 19.6mOhm Ron, Qg (typ) 25.0nC, PG-TDSON-8
pins: 1 S, 2 S, 3 S, 4 G, 5 D

## BSC252N10NSFG
designator *  value BSC252N10NSFG  Reference: Q
40A Id, 100V Vds, OptiMOS N-Channel Power MOSFET, 25.2mOhm Ron, Qg (typ) 13.0nC, PG-TDSON-8; ki_keywords: OptiMOS Power MOSFET N-MOS; ki_fp_filters: TDSON*; Footprint: Package_TO_SOT_SMD:TDSON-8-1; Datasheet: http://www.infineon.com/dgdl/Infineon-BSC252N10NSF-DS-v02_08-en.pdf?fileId=db3a30431b3e89eb011b498909e97b17; Description_: 40A Id, 100V Vds, OptiMOS N-Channel Power MOSFET, 25.2mOhm Ron, Qg (typ) 13.0nC, PG-TDSON-8
pins: 1 S, 2 S, 3 S, 4 G, 5 D

## BSC265N10LSFG
designator *  value BSC265N10LSFG  Reference: Q
40A Id, 100V Vds, OptiMOS N-Channel Power MOSFET, 26.5mOhm Ron, Qg (typ) 16.0nC, PG-TDSON-8; ki_keywords: OptiMOS Power MOSFET N-MOS; ki_fp_filters: TDSON*; Footprint: Package_TO_SOT_SMD:TDSON-8-1; Datasheet: http://www.infineon.com/dgdl/Infineon-BSC265N10LSFG-DS-v02_08-en.pdf?fileId=db3a30431b3e89eb011b49a375207b46; Description_: 40A Id, 100V Vds, OptiMOS N-Channel Power MOSFET, 26.5mOhm Ron, Qg (typ) 16.0nC, PG-TDSON-8
pins: 1 S, 2 S, 3 S, 4 G, 5 D

## BSC340N08NS3G
designator *  value BSC340N08NS3G  Reference: Q
23A Id, 80V Vds, OptiMOS N-Channel Power MOSFET, 34.0mOhm Ron, Qg (typ) 6.8nC, PG-TDSON-8; ki_keywords: OptiMOS Power MOSFET N-MOS; ki_fp_filters: TDSON*; Footprint: Package_TO_SOT_SMD:TDSON-8-1; Datasheet: http://www.infineon.com/dgdl/Infineon-BSC340N08NS3G-DS-v02_06-en.pdf?fileId=db3a30431add1d95011ae81c21f2563a; Description_: 23A Id, 80V Vds, OptiMOS N-Channel Power MOSFET, 34.0mOhm Ron, Qg (typ) 6.8nC, PG-TDSON-8
pins: 1 S, 2 S, 3 S, 4 G, 5 D

## BSC440N10NS3G
designator *  value BSC440N10NS3G  Reference: Q
18A Id, 100V Vds, OptiMOS N-Channel Power MOSFET, 44.0mOhm Ron, Qg (typ) 8.1nC, PG-TDSON-8; ki_keywords: OptiMOS Power MOSFET N-MOS; ki_fp_filters: TDSON*; Footprint: Package_TO_SOT_SMD:TDSON-8-1; Datasheet: http://www.infineon.com/dgdl/Infineon-BSC440N10NS3-DS-v02_04-en.pdf?fileId=db3a30432239cccd0122604520d47f56; Description_: 18A Id, 100V Vds, OptiMOS N-Channel Power MOSFET, 44.0mOhm Ron, Qg (typ) 8.1nC, PG-TDSON-8
pins: 1 S, 2 S, 3 S, 4 G, 5 D

## BSD235C
designator *  value BSD235C  Reference: Q
-0.53/+0.95A Id, -20/+20V Vds, P/N-Channel MOSFET, SOT-363, Infineon; ki_keywords: OptiMOS MOSFET complementary nmos pmos enhanced avalanche AEC Q101 super logic infineon; ki_fp_filters: SOT?363*; Footprint: Package_TO_SOT_SMD:SOT-363_SC-70-6; Datasheet: https://www.infineon.com/dgdl/Infineon-BSD235C-DS-v02_04-EN.pdf?fileId=db3a30433580b371013585a2d0d53326; Description_: -0.53/+0.95A Id, -20/+20V Vds, P/N-Channel MOSFET, SOT-363, Infineon
part A pins: 1 SN, 2 GN (in), 6 DN
part B pins: 3 DP, 4 SP, 5 GP (in)

## BSD840N
designator *  value BSD840N  Reference: Q
0.88A Id, 20V Vds, Dual N-Channel MOSFET, 560mOhm Ron at 1.8V Vgs (ultra logic level), SOT-363; ki_keywords: nfet pair; ki_fp_filters: SOT?363*; Footprint: Package_TO_SOT_SMD:SOT-363_SC-70-6; Datasheet: https://www.infineon.com/dgdl/BSD840N_Rev2%204.pdf?fileId=db3a30431b0626df011b12b4486c7c02; Description_: 0.88A Id, 20V Vds, Dual N-Channel MOSFET, 560mOhm Ron at 1.8V Vgs (ultra logic level), SOT-363
part A pins: 1 S, 2 G, 6 D
part B pins: 3 D, 4 S, 5 G

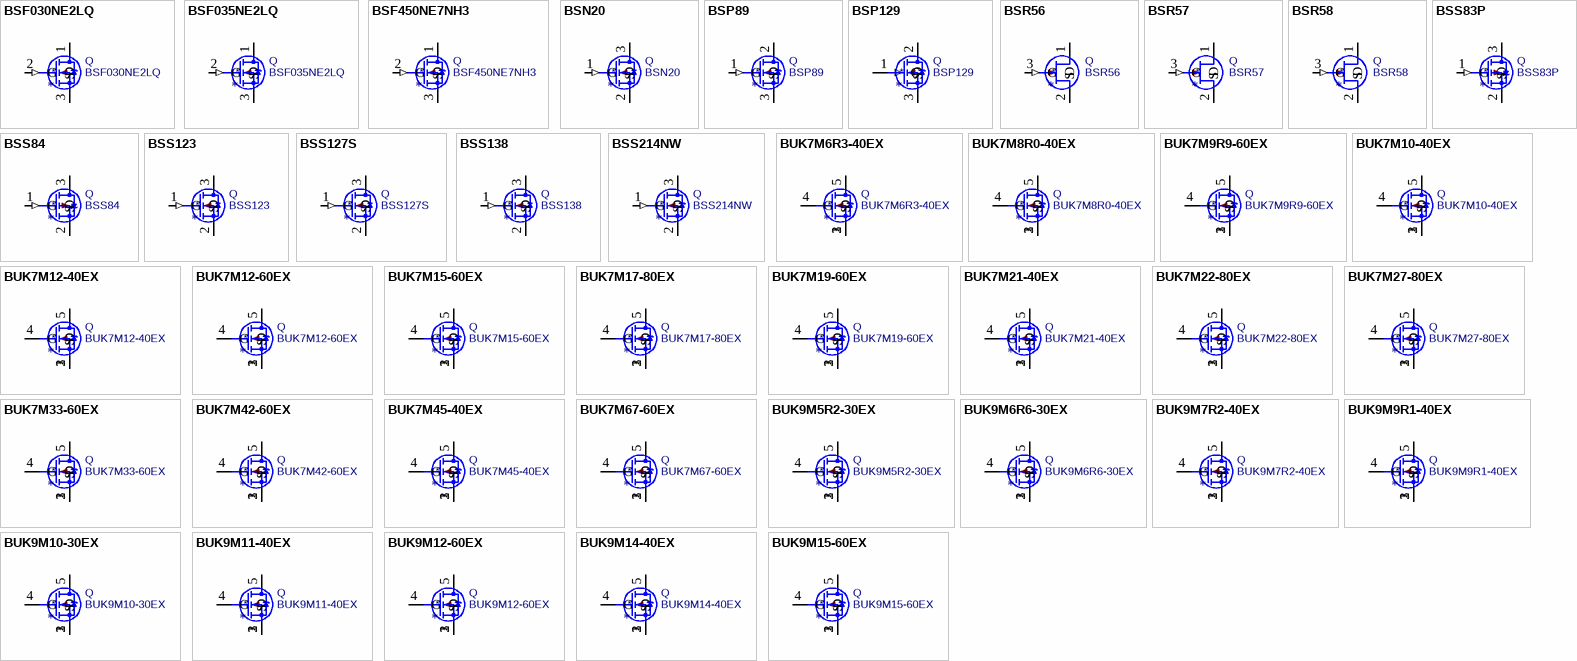
[diagram p2: symbols BSF030NE2LQ to BUK9M15-60EX]

## BSF030NE2LQ
designator *  value BSF030NE2LQ  Reference: Q
75A Id, 25V Vds, 3mOhm Rds, N-Channel MOSFET, DirectFET SQ; ki_fp_filters: DirectFET*SQ*; Footprint: Package_DirectFET:DirectFET_SQ; Datasheet: https://www.infineon.com/dgdl/Infineon-BSF030NE2LQ-DS-v02_03-en.pdf?fileId=db3a30432e398416012e47a8f0792588; Description_: 75A Id, 25V Vds, 3mOhm Rds, N-Channel MOSFET, DirectFET SQ; ki_keywords: N-Channel MOSFET
pins: 1 D, 2 G (in), 3 S

## BSF035NE2LQ
designator *  value BSF035NE2LQ  Reference: Q
69A Id, 25V Vds, 3.5mOhm Rds, N-Channel MOSFET, DirectFET SQ; ki_fp_filters: DirectFET*SQ*; Footprint: Package_DirectFET:DirectFET_SQ; Datasheet: https://www.infineon.com/dgdl/Infineon-BSF035NE2LQ-DS-v01_03-en.pdf?fileId=db3a30433f764301013f7fe8a925463c; Description_: 69A Id, 25V Vds, 3.5mOhm Rds, N-Channel MOSFET, DirectFET SQ; ki_keywords: N-Channel MOSFET
pins: 1 D, 2 G (in), 3 S

## BSF450NE7NH3
designator *  value BSF450NE7NH3  Reference: Q
15A Id, 75V Vds, 45mOhm Rds, N-Channel MOSFET, DirectFET ST; ki_fp_filters: DirectFET*ST*; Footprint: Package_DirectFET:DirectFET_ST; Datasheet: https://www.infineon.com/dgdl/Infineon-BSF450NE7NH3-DS-v02_02-EN.pdf?fileId=db3a30433a047ba0013a687e2ae403da; Description_: 15A Id, 75V Vds, 45mOhm Rds, N-Channel MOSFET, DirectFET ST; ki_keywords: N-Channel MOSFET
pins: 1 D, 2 G (in), 3 S

## BSN20
designator *  value BSN20  Reference: Q
0.5A Id, 50V Vds, N-Channel MOSFET, SOT-23; ki_fp_filters: SOT?23*; Footprint: Package_TO_SOT_SMD:SOT-23; Datasheet: http://www.diodes.com/assets/Datasheets/ds31898.pdf; Description_: 0.5A Id, 50V Vds, N-Channel MOSFET, SOT-23; ki_keywords: N-Channel MOSFET
pins: 1 G (in), 2 S, 3 D

## BSP89
designator *  value BSP89  Reference: Q
0.35A Id, 240V Vds, N-Channel Enhancement Mode MOSFET, SOT-223; ki_keywords: N-Channel MOSFET; ki_fp_filters: SOT?223*; Footprint: Package_TO_SOT_SMD:SOT-223-3_TabPin2; Datasheet: https://www.infineon.com/dgdl/Infineon-BSP89-DS-v02_02-en.pdf?fileId=db3a30433b47825b013b4b8a07f90d55; Description_: 0.35A Id, 240V Vds, N-Channel Enhancement Mode MOSFET, SOT-223
pins: 1 G (in), 2 D, 3 S

## BSP129
designator *  value BSP129  Reference: Q
0.35A Id, 240V Vds, N-Channel MOSFET, SOT-223; ki_fp_filters: SOT?223*; Footprint: Package_TO_SOT_SMD:SOT-223-3_TabPin2; Datasheet: https://www.infineon.com/dgdl/Infineon-BSP129-DS-v01_42-en.pdf?fileId=db3a30433c1a8752013c1fc296d2395f; Description_: 0.35A Id, 240V Vds, N-Channel MOSFET, SOT-223; ki_keywords: N-Channel MOSFET
pins: 1 G (in), 2 D, 3 S

## BSR56
designator *  value BSR56  Reference: Q
50mA min, 40V, 25mOhm max, 4-10V Vgs(off), N-Channel JFET, SOT-23; ki_keywords: N-Channel FET Transistor; ki_fp_filters: SOT?23*; Footprint: Package_TO_SOT_SMD:SOT-23; Datasheet: https://www.nxp.com/docs/en/data-sheet/BSR56_57_58.pdf; Description_: 50mA min, 40V, 25mOhm max, 4-10V Vgs(off), N-Channel JFET, SOT-23
pins: 1 D, 2 S, 3 G (in)

## BSR57
designator *  value BSR57  Reference: Q
20mA min, 40V, 40mOhm max, 2-6V Vgs(off), N-Channel JFET, SOT-23; ki_keywords: N-Channel FET Transistor; ki_fp_filters: SOT?23*; Footprint: Package_TO_SOT_SMD:SOT-23; Datasheet: https://www.nxp.com/docs/en/data-sheet/BSR56_57_58.pdf; Description_: 20mA min, 40V, 40mOhm max, 2-6V Vgs(off), N-Channel JFET, SOT-23
pins: 1 D, 2 S, 3 G (in)

## BSR58
designator *  value BSR58  Reference: Q
80mA min, 40V, 60mOhm max, 0.8-4V Vgs(off), N-Channel JFET, SOT-23; ki_keywords: N-Channel FET Transistor; ki_fp_filters: SOT?23*; Footprint: Package_TO_SOT_SMD:SOT-23; Datasheet: https://www.nxp.com/docs/en/data-sheet/BSR56_57_58.pdf; Description_: 80mA min, 40V, 60mOhm max, 0.8-4V Vgs(off), N-Channel JFET, SOT-23
pins: 1 D, 2 S, 3 G (in)

## BSS83P
designator *  value BSS83P  Reference: Q
-0.33A Id, -60V Vds, P-Channel MOSFET, SOT-23; ki_fp_filters: SOT?23*; Footprint: Package_TO_SOT_SMD:SOT-23; Datasheet: http://www.farnell.com/datasheets/1835997.pdf; Description_: -0.33A Id, -60V Vds, P-Channel MOSFET, SOT-23; ki_keywords: P-Channel MOSFET
pins: 1 G (in), 2 S, 3 D

## BSS84
designator *  value BSS84  Reference: Q
-0.13A Id, -50V Vds, P-Channel MOSFET, SOT-23; ki_fp_filters: SOT?23*; Footprint: Package_TO_SOT_SMD:SOT-23; Datasheet: http://assets.nexperia.com/documents/data-sheet/BSS84.pdf; Description_: -0.13A Id, -50V Vds, P-Channel MOSFET, SOT-23; ki_keywords: P-Channel MOSFET
pins: 1 G (in), 2 S, 3 D

## BSS123
designator *  value BSS123  Reference: Q
0.17A Id, 100V Vds, N-Channel MOSFET, SOT-23; ki_fp_filters: SOT?23*; Footprint: Package_TO_SOT_SMD:SOT-23; Datasheet: http://www.diodes.com/assets/Datasheets/ds30366.pdf; Description_: 0.17A Id, 100V Vds, N-Channel MOSFET, SOT-23; ki_keywords: N-Channel MOSFET
pins: 1 G (in), 2 S, 3 D

## BSS127S
designator *  value BSS127S  Reference: Q
0.07A Id, 600V Vds, N-Channel MOSFET, SOT-23; ki_fp_filters: SOT?23*; Footprint: Package_TO_SOT_SMD:SOT-23; Datasheet: http://www.diodes.com/assets/Datasheets/BSS127.pdf; Description_: 0.07A Id, 600V Vds, N-Channel MOSFET, SOT-23; ki_keywords: N-Channel MOSFET
pins: 1 G (in), 2 S, 3 D

## BSS138
designator *  value BSS138  Reference: Q
50V Vds, 0.22A Id, N-Channel MOSFET, SOT-23; ki_fp_filters: SOT?23*; Footprint: Package_TO_SOT_SMD:SOT-23; Datasheet: https://www.onsemi.com/pub/Collateral/BSS138-D.PDF; Description_: 50V Vds, 0.22A Id, N-Channel MOSFET, SOT-23; ki_keywords: N-Channel MOSFET
pins: 1 G (in), 2 S, 3 D

## BSS214NW
designator *  value BSS214NW  Reference: Q
20V Vds, 1.5A Id, N-Channel MOSFET, SOT-323; ki_fp_filters: SOT?323*; Footprint: Package_TO_SOT_SMD:SOT-323_SC-70; Datasheet: https://www.infineon.com/dgdl/Infineon-BSS214NW-DS-v02_02-en.pdf?fileId=db3a30431b3e89eb011b695aebc01bde; Description_: 20V Vds, 1.5A Id, N-Channel MOSFET, SOT-323; ki_keywords: N-Channel MOSFET
pins: 1 G (in), 2 S, 3 D

## BUK7M6R3-40EX
designator *  value BUK7M6R3-40EX  Reference: Q
70A Id, 40V Vds, N-Channel TrenchMOS MOSFET, 6.3mOhm Ron, 28.1nC Qqd, -55 to 175 °C, LFPAK33; ki_keywords: Power MOSFET N-MOS; ki_fp_filters: LFPAK33*; Footprint: Package_TO_SOT_SMD:LFPAK33; Datasheet: https://assets.nexperia.com/documents/data-sheet/BUK7M6R3-40E.pdf; Description_: 70A Id, 40V Vds, N-Channel TrenchMOS MOSFET, 6.3mOhm Ron, 28.1nC Qqd, -55 to 175 °C, LFPAK33
pins: 1 S, 2 S, 3 S, 4 G, 5 D

## BUK7M8R0-40EX
designator *  value BUK7M8R0-40EX  Reference: Q
69A Id, 40V Vds, N-Channel TrenchMOS MOSFET, 8mOhm Ron, 23.8nC Qqd, -55 to 175 °C, LFPAK33; ki_keywords: Power MOSFET N-MOS; ki_fp_filters: LFPAK33*; Footprint: Package_TO_SOT_SMD:LFPAK33; Datasheet: https://assets.nexperia.com/documents/data-sheet/BUK7M8R0-40E.pdf; Description_: 69A Id, 40V Vds, N-Channel TrenchMOS MOSFET, 8mOhm Ron, 23.8nC Qqd, -55 to 175 °C, LFPAK33
pins: 1 S, 2 S, 3 S, 4 G, 5 D

## BUK7M9R9-60EX
designator *  value BUK7M9R9-60EX  Reference: Q
60A Id, 60V Vds, N-Channel TrenchMOS MOSFET, 9.9mOhm Ron, 30.1nC Qqd, -55 to 175 °C, LFPAK33; ki_keywords: Power MOSFET N-MOS; ki_fp_filters: LFPAK33*; Footprint: Package_TO_SOT_SMD:LFPAK33; Datasheet: https://assets.nexperia.com/documents/data-sheet/BUK7M9R9-60E.pdf; Description_: 60A Id, 60V Vds, N-Channel TrenchMOS MOSFET, 9.9mOhm Ron, 30.1nC Qqd, -55 to 175 °C, LFPAK33
pins: 1 S, 2 S, 3 S, 4 G, 5 D

## BUK7M10-40EX
designator *  value BUK7M10-40EX  Reference: Q
56A Id, 40V Vds, N-Channel TrenchMOS MOSFET, 10mOhm Ron, 19.5nC Qqd, -55 to 175 °C, LFPAK33; ki_keywords: Power MOSFET N-MOS; ki_fp_filters: LFPAK33*; Footprint: Package_TO_SOT_SMD:LFPAK33; Datasheet: https://assets.nexperia.com/documents/data-sheet/BUK7M10-40E.pdf; Description_: 56A Id, 40V Vds, N-Channel TrenchMOS MOSFET, 10mOhm Ron, 19.5nC Qqd, -55 to 175 °C, LFPAK33
pins: 1 S, 2 S, 3 S, 4 G, 5 D

## BUK7M12-40EX
designator *  value BUK7M12-40EX  Reference: Q
48A Id, 40V Vds, N-Channel TrenchMOS MOSFET, 12mOhm Ron, 15.8nC Qqd, -55 to 175 °C, LFPAK33; ki_keywords: Power MOSFET N-MOS; ki_fp_filters: LFPAK33*; Footprint: Package_TO_SOT_SMD:LFPAK33; Datasheet: https://assets.nexperia.com/documents/data-sheet/BUK7M12-40E.pdf; Description_: 48A Id, 40V Vds, N-Channel TrenchMOS MOSFET, 12mOhm Ron, 15.8nC Qqd, -55 to 175 °C, LFPAK33
pins: 1 S, 2 S, 3 S, 4 G, 5 D

## BUK7M12-60EX
designator *  value BUK7M12-60EX  Reference: Q
53A Id, 60V Vds, N-Channel TrenchMOS MOSFET, 12mOhm Ron, 24.8nC Qqd, -55 to 175 °C, LFPAK33; ki_keywords: Power MOSFET N-MOS; ki_fp_filters: LFPAK33*; Footprint: Package_TO_SOT_SMD:LFPAK33; Datasheet: https://assets.nexperia.com/documents/data-sheet/BUK7M12-60E.pdf; Description_: 53A Id, 60V Vds, N-Channel TrenchMOS MOSFET, 12mOhm Ron, 24.8nC Qqd, -55 to 175 °C, LFPAK33
pins: 1 S, 2 S, 3 S, 4 G, 5 D

## BUK7M15-60EX
designator *  value BUK7M15-60EX  Reference: Q
42.9A Id, 60V Vds, N-Channel TrenchMOS MOSFET, 15mOhm Ron, 19.4nC Qqd, -55 to 175 °C, LFPAK33; ki_keywords: Power MOSFET N-MOS; ki_fp_filters: LFPAK33*; Footprint: Package_TO_SOT_SMD:LFPAK33; Datasheet: https://assets.nexperia.com/documents/data-sheet/BUK7M15-60E.pdf; Description_: 42.9A Id, 60V Vds, N-Channel TrenchMOS MOSFET, 15mOhm Ron, 19.4nC Qqd, -55 to 175 °C, LFPAK33
pins: 1 S, 2 S, 3 S, 4 G, 5 D

## BUK7M17-80EX
designator *  value BUK7M17-80EX  Reference: Q
43A Id, 80V Vds, N-Channel TrenchMOS MOSFET, 17mOhm Ron, 29.6nC Qqd, -55 to 175 °C, LFPAK33; ki_keywords: Power MOSFET N-MOS; ki_fp_filters: LFPAK33*; Footprint: Package_TO_SOT_SMD:LFPAK33; Datasheet: https://assets.nexperia.com/documents/data-sheet/BUK7M17-80E.pdf; Description_: 43A Id, 80V Vds, N-Channel TrenchMOS MOSFET, 17mOhm Ron, 29.6nC Qqd, -55 to 175 °C, LFPAK33
pins: 1 S, 2 S, 3 S, 4 G, 5 D

## BUK7M19-60EX
designator *  value BUK7M19-60EX  Reference: Q
35.8A Id, 60V Vds, N-Channel TrenchMOS MOSFET, 19mOhm Ron, 17.3nC Qqd, -55 to 175 °C, LFPAK33; ki_keywords: Power MOSFET N-MOS; ki_fp_filters: LFPAK33*; Footprint: Package_TO_SOT_SMD:LFPAK33; Datasheet: https://assets.nexperia.com/documents/data-sheet/BUK7M19-60E.pdf; Description_: 35.8A Id, 60V Vds, N-Channel TrenchMOS MOSFET, 19mOhm Ron, 17.3nC Qqd, -55 to 175 °C, LFPAK33
pins: 1 S, 2 S, 3 S, 4 G, 5 D

## BUK7M21-40EX
designator *  value BUK7M21-40EX  Reference: Q
33A Id, 40V Vds, N-Channel TrenchMOS MOSFET, 21mOhm Ron, 10.7nC Qqd, -55 to 175 °C, LFPAK33; ki_keywords: Power MOSFET N-MOS; ki_fp_filters: LFPAK33*; Footprint: Package_TO_SOT_SMD:LFPAK33; Datasheet: https://assets.nexperia.com/documents/data-sheet/BUK7M21-40E.pdf; Description_: 33A Id, 40V Vds, N-Channel TrenchMOS MOSFET, 21mOhm Ron, 10.7nC Qqd, -55 to 175 °C, LFPAK33
pins: 1 S, 2 S, 3 S, 4 G, 5 D

## BUK7M22-80EX
designator *  value BUK7M22-80EX  Reference: Q
37A Id, 80V Vds, N-Channel TrenchMOS MOSFET, 22mOhm Ron, 23.9nC Qqd, -55 to 175 °C, LFPAK33; ki_keywords: Power MOSFET N-MOS; ki_fp_filters: LFPAK33*; Footprint: Package_TO_SOT_SMD:LFPAK33; Datasheet: https://assets.nexperia.com/documents/data-sheet/BUK7M22-80E.pdf; Description_: 37A Id, 80V Vds, N-Channel TrenchMOS MOSFET, 22mOhm Ron, 23.9nC Qqd, -55 to 175 °C, LFPAK33
pins: 1 S, 2 S, 3 S, 4 G, 5 D

## BUK7M27-80EX
designator *  value BUK7M27-80EX  Reference: Q
30A Id, 80V Vds, N-Channel TrenchMOS MOSFET, 27mOhm Ron, 19.5nC Qqd, -55 to 175 °C, LFPAK33; ki_keywords: Power MOSFET N-MOS; ki_fp_filters: LFPAK33*; Footprint: Package_TO_SOT_SMD:LFPAK33; Datasheet: https://assets.nexperia.com/documents/data-sheet/BUK7M27-80E.pdf; Description_: 30A Id, 80V Vds, N-Channel TrenchMOS MOSFET, 27mOhm Ron, 19.5nC Qqd, -55 to 175 °C, LFPAK33
pins: 1 S, 2 S, 3 S, 4 G, 5 D

## BUK7M33-60EX
designator *  value BUK7M33-60EX  Reference: Q
24A Id, 60V Vds, N-Channel TrenchMOS MOSFET, 33mOhm Ron, 10.9nC Qqd, -55 to 175 °C, LFPAK33; ki_keywords: Power MOSFET N-MOS; ki_fp_filters: LFPAK33*; Footprint: Package_TO_SOT_SMD:LFPAK33; Datasheet: https://assets.nexperia.com/documents/data-sheet/BUK7M33-60E.pdf; Description_: 24A Id, 60V Vds, N-Channel TrenchMOS MOSFET, 33mOhm Ron, 10.9nC Qqd, -55 to 175 °C, LFPAK33
pins: 1 S, 2 S, 3 S, 4 G, 5 D

## BUK7M42-60EX
designator *  value BUK7M42-60EX  Reference: Q
20A Id, 60V Vds, N-Channel TrenchMOS MOSFET, 42mOhm Ron, 9nC Qqd, -55 to 175 °C, LFPAK33; ki_keywords: Power MOSFET N-MOS; ki_fp_filters: LFPAK33*; Footprint: Package_TO_SOT_SMD:LFPAK33; Datasheet: https://assets.nexperia.com/documents/data-sheet/BUK7M42-60E.pdf; Description_: 20A Id, 60V Vds, N-Channel TrenchMOS MOSFET, 42mOhm Ron, 9nC Qqd, -55 to 175 °C, LFPAK33
pins: 1 S, 2 S, 3 S, 4 G, 5 D

## BUK7M45-40EX
designator *  value BUK7M45-40EX  Reference: Q
19A Id, 40V Vds, N-Channel TrenchMOS MOSFET, 45mOhm Ron, 6.2nC Qqd, -55 to 175 °C, LFPAK33; ki_keywords: Power MOSFET N-MOS; ki_fp_filters: LFPAK33*; Footprint: Package_TO_SOT_SMD:LFPAK33; Datasheet: https://assets.nexperia.com/documents/data-sheet/BUK7M45-40E.pdf; Description_: 19A Id, 40V Vds, N-Channel TrenchMOS MOSFET, 45mOhm Ron, 6.2nC Qqd, -55 to 175 °C, LFPAK33
pins: 1 S, 2 S, 3 S, 4 G, 5 D

## BUK7M67-60EX
designator *  value BUK7M67-60EX  Reference: Q
14A Id, 60V Vds, N-Channel TrenchMOS MOSFET, 67mOhm Ron, 6.7nC Qqd, -55 to 175 °C, LFPAK33; ki_keywords: Power MOSFET N-MOS; ki_fp_filters: LFPAK33*; Footprint: Package_TO_SOT_SMD:LFPAK33; Datasheet: https://assets.nexperia.com/documents/data-sheet/BUK7M67-60E.pdf; Description_: 14A Id, 60V Vds, N-Channel TrenchMOS MOSFET, 67mOhm Ron, 6.7nC Qqd, -55 to 175 °C, LFPAK33
pins: 1 S, 2 S, 3 S, 4 G, 5 D

## BUK9M5R2-30EX
designator *  value BUK9M5R2-30EX  Reference: Q
70A Id, 30V Vds, N-Channel TrenchMOS MOSFET, 4.1mOhm Ron, 22.5nC Qqd, -55 to 175 °C, LFPAK33; ki_keywords: Power MOSFET N-MOS; ki_fp_filters: LFPAK33*; Footprint: Package_TO_SOT_SMD:LFPAK33; Datasheet: https://assets.nexperia.com/documents/data-sheet/BUK9M5R2-30E.pdf; Description_: 70A Id, 30V Vds, N-Channel TrenchMOS MOSFET, 4.1mOhm Ron, 22.5nC Qqd, -55 to 175 °C, LFPAK33
pins: 1 S, 2 S, 3 S, 4 G, 5 D

## BUK9M6R6-30EX
designator *  value BUK9M6R6-30EX  Reference: Q
70A Id, 30V Vds, N-Channel TrenchMOS MOSFET, 5.3mOhm Ron, 18nC Qqd, -55 to 175 °C, LFPAK33; ki_keywords: Power MOSFET N-MOS; ki_fp_filters: LFPAK33*; Footprint: Package_TO_SOT_SMD:LFPAK33; Datasheet: https://assets.nexperia.com/documents/data-sheet/BUK9M6R6-30E.pdf; Description_: 70A Id, 30V Vds, N-Channel TrenchMOS MOSFET, 5.3mOhm Ron, 18nC Qqd, -55 to 175 °C, LFPAK33
pins: 1 S, 2 S, 3 S, 4 G, 5 D

## BUK9M7R2-40EX
designator *  value BUK9M7R2-40EX  Reference: Q
70A Id, 40V Vds, N-Channel TrenchMOS MOSFET, 5.8mOhm Ron, 19.7nC Qqd, -55 to 175 °C, LFPAK33; ki_keywords: Power MOSFET N-MOS; ki_fp_filters: LFPAK33*; Footprint: Package_TO_SOT_SMD:LFPAK33; Datasheet: https://assets.nexperia.com/documents/data-sheet/BUK9M7R2-40E.pdf; Description_: 70A Id, 40V Vds, N-Channel TrenchMOS MOSFET, 5.8mOhm Ron, 19.7nC Qqd, -55 to 175 °C, LFPAK33
pins: 1 S, 2 S, 3 S, 4 G, 5 D

## BUK9M9R1-40EX
designator *  value BUK9M9R1-40EX  Reference: Q
64A Id, 40V Vds, N-Channel TrenchMOS MOSFET, 7.3mOhm Ron, 16.2nC Qqd, -55 to 175 °C, LFPAK33; ki_keywords: Power MOSFET N-MOS; ki_fp_filters: LFPAK33*; Footprint: Package_TO_SOT_SMD:LFPAK33; Datasheet: https://assets.nexperia.com/documents/data-sheet/BUK9M9R1-40E.pdf; Description_: 64A Id, 40V Vds, N-Channel TrenchMOS MOSFET, 7.3mOhm Ron, 16.2nC Qqd, -55 to 175 °C, LFPAK33
pins: 1 S, 2 S, 3 S, 4 G, 5 D